# Altium schematic symbol library wr_switch.SCHLIB: 235 symbols (part 4 of 4)
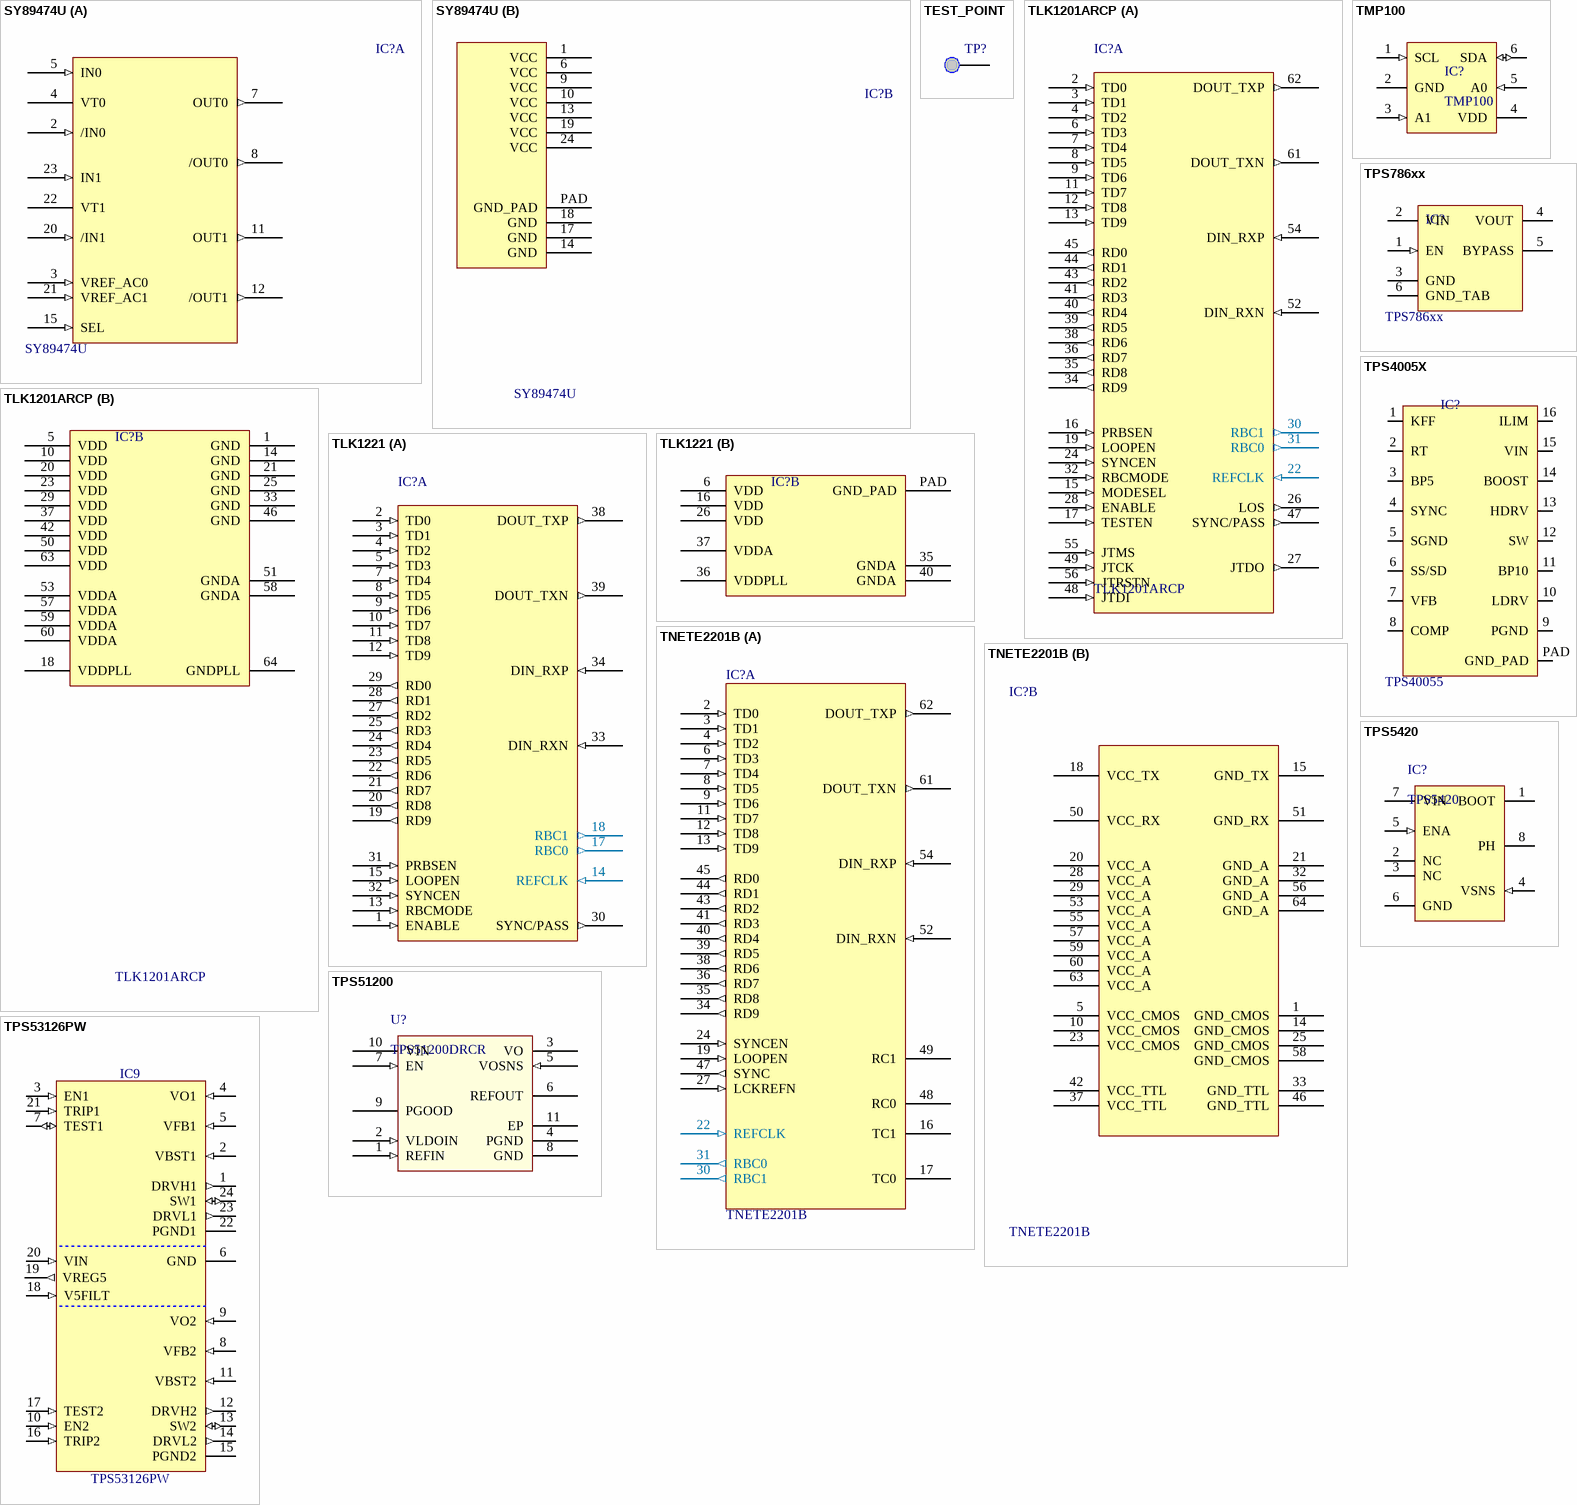
[diagram p29: symbols SY89474U to TPS53126PW]

## TPS786xx
designator IC?
TI low noise LDO, 1A load; Value: TPS786xx
footprint SOT223-6L (SOT223, 6-Leads, Body 6.5x3.5mm, Pitch 2.3mm, Lead Span 7mm, IPC High Density)
pins: 1 EN (in), 2 VIN (oe), 3 GND, 4 VOUT (power), 5 BYPASS, 6 GND_TAB

## TPS4005X
designator IC?  value TPS40055  (hidden comment: TPS4005X)
TI synchronous buck controller; RefId: 1535777; Supplier: Farnell
footprint TI_PWP_16 (SOP, 16-Leads, Body 5x4.4mm, Pitch 0.65mm, IPC High Density)
pins: 1 KFF, 2 RT, 3 BP5, 4 SYNC, 5 SGND, 6 SS/SD, 7 VFB, 8 COMP, 9 PGND, 10 LDRV, 11 BP10, 12 SW, 13 HDRV, 14 BOOST, 15 VIN, 16 ILIM, PAD GND_PAD

## TPS5420
designator IC?
Step-down switchmode converter
footprint SOIC127P600-8AL (SOIC, 8-Leads, Body 4.9x3.9mm, Pitch 1.27mm, IPC High Density)
pins: 1 BOOT, 2 NC, 3 NC, 4 VSNS (in), 5 ENA (in), 6 GND (power), 7 VIN (power), 8 PH (power)

## TPS51200
designator U?, comment TPS51200DRCR
Sink/Source DDR Termination Regulator; Value: TPS51200DRCR; Distributor1 PN: 296-26978-1-ND; Distributor1: Digikey
footprint SON50P300X300X100-11N-R175X250 (SON, 0.50mm Pitch, 10-pin, 3.00mm W  X 3.00mm L X 1.00mm Height, (w/thermal tab 1.75 X 2.50 mm), IPC Medium Density)
pins: 1 REFIN (in), 2 VLDOIN (in), 3 VO (power), 4 PGND (power), 5 VOSNS (in), 6 REFOUT (power), 7 EN (in), 8 GND (power), 9 PGOOD (oc), 10 VIN (power), 11 EP (power)

## TPS53126PW
designator IC9
Dual Synchronous Step-Down Controller For Low Voltage Power Rails; Manufacturer: TEXAS INSTRUMENTS; Table: Analog & Interface; Part Number: TPS53126PW; Component Kind: Standard; Component Type: Standard; Device: TPS53126PW; Footprint: SOP65P640X120-24N; PackageDescription: SOP, 0.65mm Pitch; 24 Pin, 4.40mm W X 7.80mm L X 1.20mm H Body, IPC Medium Density; Part Description: Dual Synchronous Step-Down Controller For Low Voltage Power Rails; Manufacturer Part Number: TPS53126PW; Pin Count: 24; Case: QFN24; Mounted: Yes; Socket: No; SMD: Yes; ComponentHeight: 1.0mm; Author: CERN DEM JLC; HelpURL: \\cern.ch\dfs\Applications\Altium\Datasheets\TPS53126RGET.pdf; CreateDate: 2010-08-26; LatestRevisionDate: 2010-08-26; Distributor1: Digikey; Distributor1 PN: 296-24555-1-ND
footprint SOP65P640X120-24N (SOP, 0.65mm Pitch; 24 Pin, 4.40mm W X 7.80mm L X 1.20mm H Body, IPC Medium Density)
pins: 1 DRVH1 (out), 2 VBST1 (in), 3 EN1 (in), 4 VO1 (in), 5 VFB1 (in), 6 GND (power), 7 TEST1 (io), 8 VFB2 (in), 9 VO2 (in), 10 EN2 (in), 11 VBST2 (in), 12 DRVH2 (out), 13 SW2 (io), 14 DRVL2 (out), 15 PGND2 (power), 16 TRIP2 (in), 17 TEST2 (in), 18 V5FILT (in), 19 VREG5 (out), 20 VIN (in), 21 TRIP1 (in), 22 PGND1 (power), 23 DRVL1 (out), 24 SW1 (io)

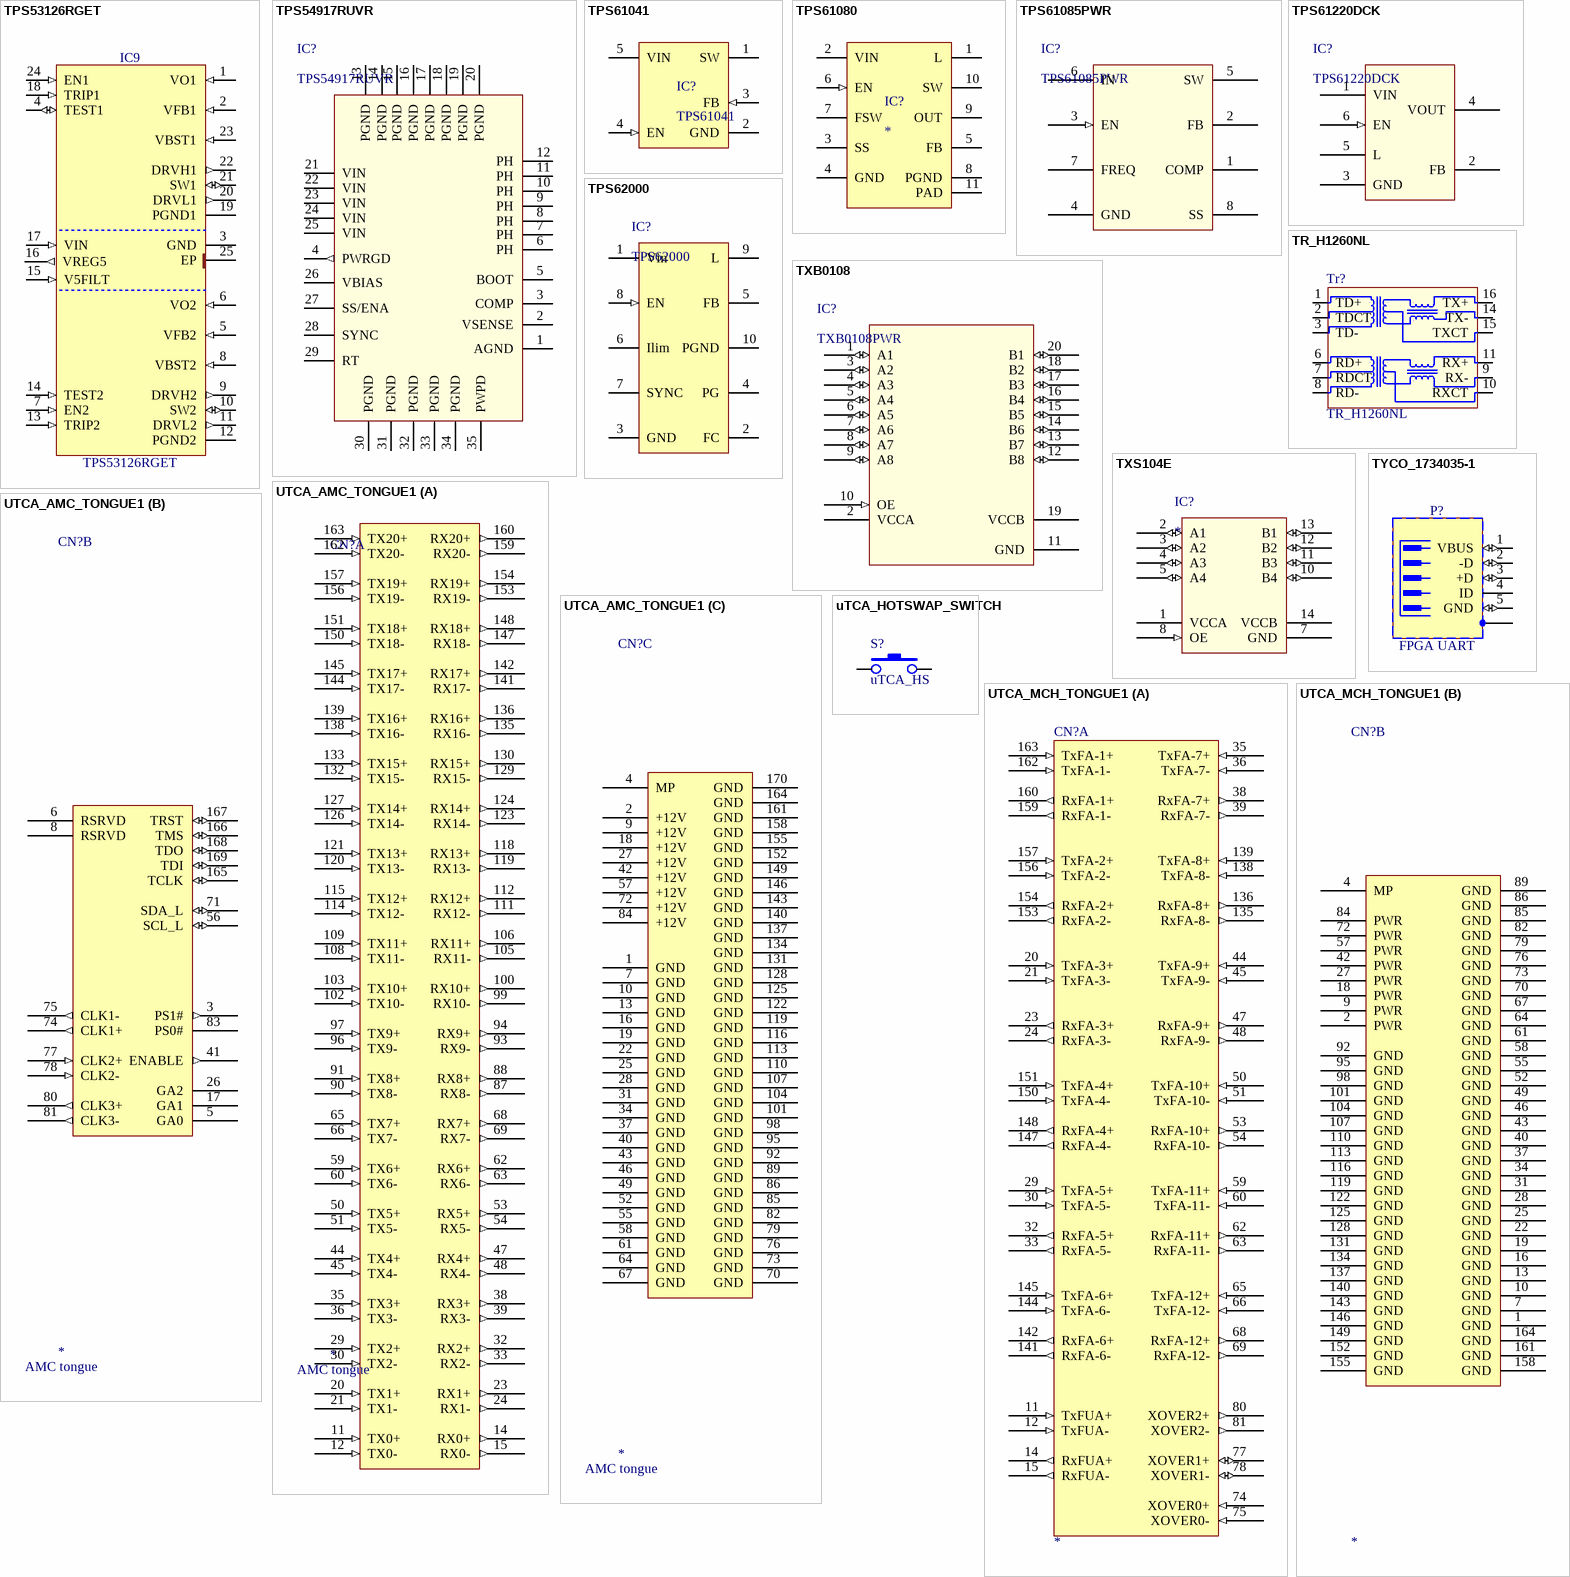
[diagram p23: symbols TPS53126RGET to UTCA_MCH_TONGUE1]

## TPS53126RGET
designator IC9
Dual Synchronous Step-Down Controller For Low Voltage Power Rails; Manufacturer: TEXAS INSTRUMENTS; Table: Analog & Interface; Part Number: TPS53126RGET; Component Kind: Standard; Component Type: Standard; Device: TPS53126RGET; Footprint: QFN50P400X400X100-25N-S255; PackageDescription: QFN,0.50mm pitch,square;6 pin X 6 pin,4.15mm X 4.15mm X 1.00mm H body (w/thermal tab 2.55 X 2.55mm),  IPC Medium Density; Part Description: Dual Synchronous Step-Down Controller For Low Voltage Power Rails; Manufacturer Part Number: TPS53126RGET; Pin Count: 25; Case: QFN24; Mounted: Yes; Socket: No; SMD: Yes; ComponentHeight: 1.0mm; Author: CERN DEM JLC; HelpURL: \\cern.ch\dfs\Applications\Altium\Datasheets\TPS53126RGET.pdf; CreateDate: 2010-08-26; LatestRevisionDate: 2010-08-26
footprint QFN50P400X400X100-25N-S255
pins: 1 VO1 (in), 2 VFB1 (in), 3 GND (power), 4 TEST1 (io), 5 VFB2 (in), 6 VO2 (in), 7 EN2 (in), 8 VBST2 (in), 9 DRVH2 (out), 10 SW2 (io), 11 DRVL2 (out), 12 PGND2 (power), 13 TRIP2 (in), 14 TEST2 (in), 15 V5FILT (in), 16 VREG5 (out), 17 VIN (in), 18 TRIP1 (in), 19 PGND1 (power), 20 DRVL1 (out), 21 SW1 (io), 22 DRVH1 (out), 23 VBST1 (in), 24 EN1 (in), 25 EP (power)

## TPS54917RUVR
designator IC?
3V to 4V Input, 9A, Small Synchronous-Back Switcher with Integrated FETs; Value: TPS54917RUVR; Distributor1 PN: 296-23930-1-ND; Distributor1: Digikey
footprint QFN50P715X365X100-34N (QFN, 34-Leads, Body 3,7x7,2mm (max), Pitch 0,50mm, IPC Medium Density)
pins: 1 AGND (power), 2 VSENSE, 3 COMP, 4 PWRGD (out), 5 BOOT, 6 PH (power), 7 PH (power), 8 PH (power), 9 PH (power), 10 PH (power), 11 PH (power), 12 PH (power), 13 PGND (power), 14 PGND (power), 15 PGND (power), 16 PGND (power), 17 PGND (power), 18 PGND (power), 19 PGND (power), 20 PGND (power), 21 VIN (power), 22 VIN (power), 23 VIN (power), 24 VIN (power), 25 VIN (power), 26 VBIAS, 27 SS/ENA, 28 SYNC, 29 RT, 30 PGND (power), 31 PGND (power), 32 PGND (power), 33 PGND (power), 34 PGND (power), 35 PWPD (power)

## TPS61041
designator IC?
RefId: 1564963; Value: TPS61041DBVR; Supplier: Farnell
footprint sot23-5
pins: 1 SW, 2 GND (power), 3 FB (in), 4 EN (in), 5 VIN

## TPS61080
designator IC?
TI boost converter; Value: TPS61080DRC
footprint SON50P300X300X80-10W2L (SON, 10-Leads, Body 3x3 mm, Pitch 0.5mm, IPC High Density)
pins: 1 L, 2 VIN (power), 3 SS, 4 GND (power), 5 FB, 6 EN (in), 7 FSW, 8 PGND, 9 OUT, 10 SW, 11 PAD

## TPS61085PWR
designator IC?
650KHz/1.2MHz, 18.5V Step-Up DC-DC Converter; Value: TPS61085PWR; Distributor1 PN: 296-23551-1-ND; Distributor1: Digikey
footprint PW008 (Shrink Small Outline; 8 Leads; Body Width 4.4 mm; Pitch 0.65 mm)
pins: 1 COMP, 2 FB, 3 EN (in), 4 GND (power), 5 SW, 6 IN (power), 7 FREQ, 8 SS

## TPS61220DCK
designator IC?
Low Input Voltage Step-Up Converter in 6 Pin SC-70 Package
footprint SC-88
pins: 1 VIN (power), 2 FB, 3 GND (power), 4 VOUT (power), 5 L, 6 EN (in)

## TPS62000
designator IC?
TI sync converter
footprint TSSOP50P490-10AL (TSSOP, 10-Leads, Body 3x3mm, Pitch 0.5mm, IPC High Density)
pins: 1 Vin (power), 2 FC, 3 GND (power), 4 PG (oc), 5 FB, 6 Ilim, 7 SYNC, 8 EN (in), 9 L, 10 PGND (power)

## TR_H1260NL
designator Tr?
ethernet trafo (TME); Value: H1260NL; Distributor1 PN: 553-1328-ND; Distributor1: Digikey
footprint H1260NL
pins: 1 TD+, 2 TDCT, 3 TD-, 6 RD+, 7 RDCT, 8 RD-, 9 RX-, 10 RXCT, 11 RX+, 14 TX-, 15 TXCT, 16 TX+

## TXB0108
designator IC?, comment TXB0108PWR
8-Bit Bidirectional Voltage-Level Translator with Auto-Direction Sensing; Value: TXB0108PWR; Distributor1: Digikey; Distributor1 PN: 296-21527-1-ND
footprint TSSOP20
pins: 1 A1 (io), 2 VCCA (power), 3 A2 (io), 4 A3 (io), 5 A4 (io), 6 A5 (io), 7 A6 (io), 8 A7 (io), 9 A8 (io), 10 OE (in), 11 GND (power), 12 B8 (io), 13 B7 (io), 14 B6 (io), 15 B5 (io), 16 B4 (io), 17 B3 (io), 18 B2 (io), 19 VCCB (power), 20 B1 (io)

## TXS104E
designator IC?
4-Bit Bidirectional Voltage-Level Translator for Open-Drain and Push-Pull Applications
footprint TSSOP-14
pins: 1 VCCA (power), 2 A1 (io), 3 A2 (io), 4 A3 (io), 5 A4 (io), 7 GND (power), 8 OE (in), 10 B4 (io), 11 B3 (io), 12 B2 (io), 13 B1 (io), 14 VCCB (power)

## TYCO_1734035-1
designator P?, comment FPGA UART
5 Pin + 1 Shield Mini USB Type B Receptacle; Part Number: TYCO_1734035-1; Part Description: 5 Position, Right Angle, SMD Mini USB Type B Receptacle; Manufacturer: TYCO ELECTRONICS; Manufacturer Part Number: 1734035-1; Table: TYCO; Component Kind: Standard; Component Type: Standard; Footprint: TYCO_1734035-1; Pin Count: 6; Family: USB; Mounted: Yes; Socket: No; SMD: Yes; Status: None; ComponentHeight: 3.95mm; HelpURL: \\cern.ch\dfs\Applications\Altium\Datasheets\TYCO_1734035-1.pdf; Author: CERN DEM JLC; CreateDate: 02/05/2011; LatestRevisionDate: 02/05/2011
footprint TYCO_1734035-1
pins: 1 VBUS (io), 2 -D (io), 3 +D (io), 4 ID, 5 GND (io), 6 SH (power)

## UTCA_AMC_TONGUE1
designator CN?  value AMC tongue
AMC1.0 connector
footprint UTCA_AMC_TONGUE (uTCA AMC1.0 AMC tongue connector)
part A pins: 11 TX0+ (in), 12 TX0- (in), 14 RX0+ (out), 15 RX0- (out), 20 TX1+ (in), 21 TX1- (in), 23 RX1+ (out), 24 RX1- (out), 29 TX2+ (in), 30 TX2- (in), 32 RX2+ (out), 33 RX2- (out), 35 TX3+ (in), 36 TX3- (in), 38 RX3+ (out), 39 RX3- (out), 44 TX4+ (in), 45 TX4- (in), 47 RX4+ (out), 48 RX4- (out), 50 TX5+ (in), 51 TX5- (in), 53 RX5+ (out), 54 RX5- (out), 59 TX6+ (in), 60 TX6- (in), 62 RX6+ (out), 63 RX6- (out), 65 TX7+ (in), 66 TX7- (in), 68 RX7+ (out), 69 RX7- (out), 87 RX8- (out), 88 RX8+ (out), 90 TX8- (in), 91 TX8+ (in), 93 RX9- (out), 94 RX9+ (out), 96 TX9- (in), 97 TX9+ (in), 99 RX10- (out), 100 RX10+ (out), 102 TX10- (in), 103 TX10+ (in), 105 RX11- (out), 106 RX11+ (out), 108 TX11- (in), 109 TX11+ (in), 111 RX12- (out), 112 RX12+ (out), 114 TX12- (in), 115 TX12+ (in), 118 RX13+ (out), 119 RX13- (out), 120 TX13- (in), 121 TX13+ (in), 123 RX14- (out), 124 RX14+ (out), 126 TX14- (in), 127 TX14+ (in), 129 RX15- (out), 130 RX15+ (out), 132 TX15- (in), 133 TX15+ (in), 135 RX16- (out), 136 RX16+ (out), 138 TX16- (in), 139 TX16+ (in), 141 RX17- (out), 142 RX17+ (out), 144 TX17- (in), 145 TX17+ (in), 147 RX18- (out), 148 RX18+ (out), 150 TX18- (in), 151 TX18+ (in), 153 RX19- (out), 154 RX19+ (out), 156 TX19- (in), 157 TX19+ (in), 159 RX20- (out), 160 RX20+ (out), 162 TX20- (in), 163 TX20+ (in)
part B pins: 3 PS1# (out), 5 GA0, 6 RSRVD, 8 RSRVD, 17 GA1, 26 GA2, 41 ENABLE (out), 56 SCL_L (io), 71 SDA_L (io), 74 CLK1+ (out), 75 CLK1- (out), 77 CLK2+ (in), 78 CLK2- (in), 80 CLK3+ (out), 81 CLK3- (out), 83 PS0#, 165 TCLK (io), 166 TMS (io), 167 TRST (io), 168 TDO (io), 169 TDI (io)
part C pins: 1 GND (power), 2 +12V (power), 4 MP (power), 7 GND (power), 9 +12V (power), 10 GND (power), 13 GND (power), 16 GND (power), 18 +12V (power), 19 GND (power), 22 GND (power), 25 GND (power), 27 +12V (power), 28 GND (power), 31 GND (power), 34 GND (power), 37 GND (power), 40 GND (power), 42 +12V (power), 43 GND (power), 46 GND (power), 49 GND (power), 52 GND (power), 55 GND (power), 57 +12V (power), 58 GND (power), 61 GND (power), 64 GND (power), 67 GND (power), 70 GND (power), 72 +12V (power), 73 GND (power), 76 GND (power), 79 GND (power), 82 GND (power), 84 +12V (power), 85 GND (power), 86 GND (power), 89 GND (power), 92 GND (power), 95 GND (power), 98 GND (power), 101 GND (power), 104 GND (power), 107 GND (power), 110 GND (power), 113 GND (power), 116 GND (power), 119 GND (power), 122 GND (power), 125 GND (power), 128 GND (power), 131 GND (power), 134 GND (power), 137 GND (power), 140 GND (power), 143 GND (power), 146 GND (power), 149 GND (power), 152 GND (power), 155 GND (power), 158 GND (power), 161 GND (power), 164 GND (power), 170 GND (power)

## uTCA_HOTSWAP_SWITCH
designator S?, comment uTCA_HS
Push button; RefId: 20849-209; Value: uTCA hotswap switch; Supplier: Schroff
footprint uTCA_HOTSWAP_SWITCH
pins: A, B, C, D
2 alternate drawings of the same symbol

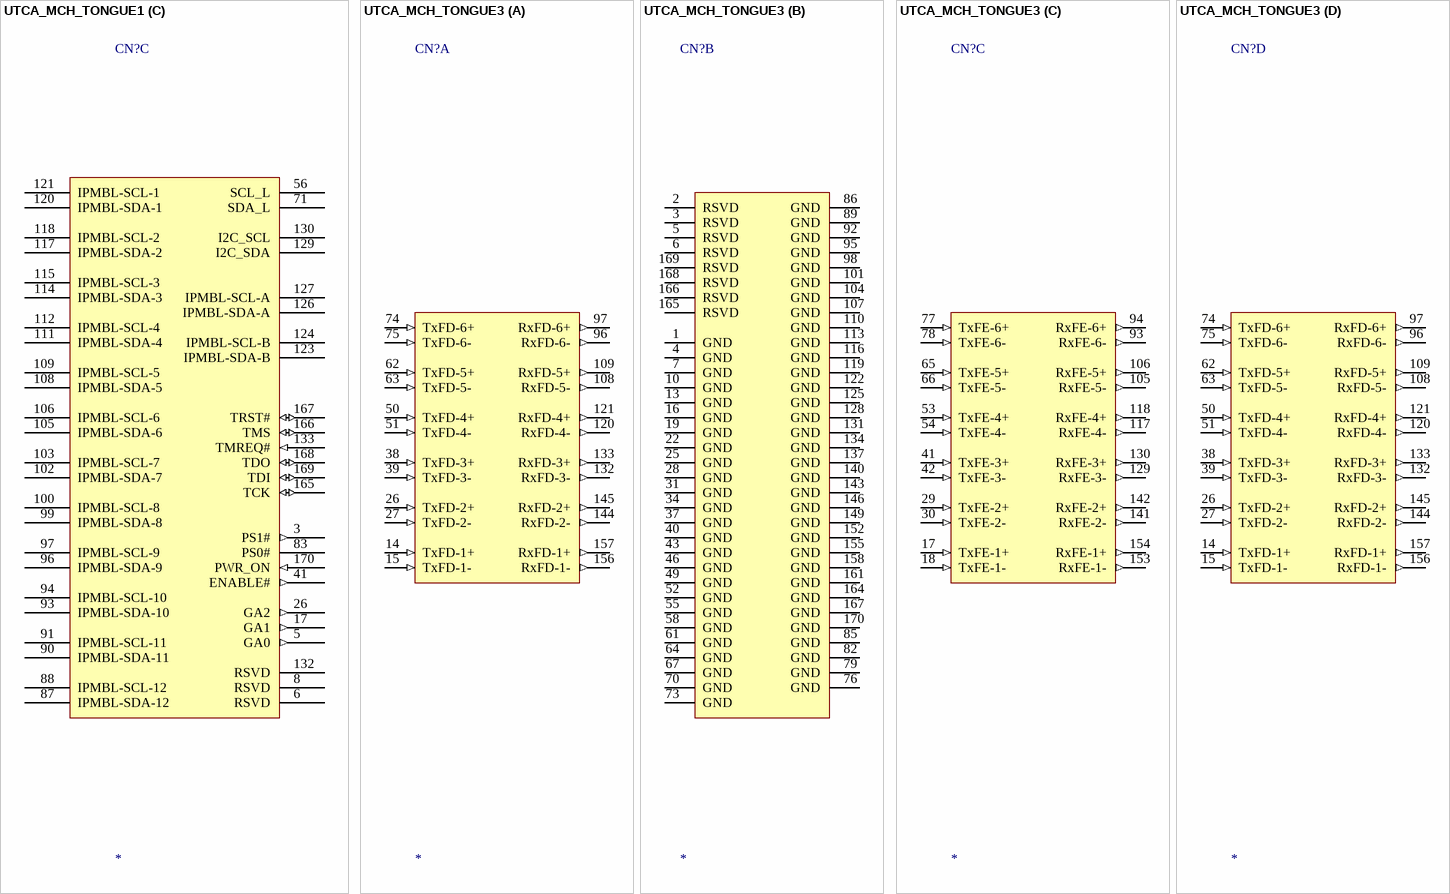
[diagram p24: symbols UTCA_MCH_TONGUE1 to UTCA_MCH_TONGUE3]

## UTCA_MCH_TONGUE1
designator CN?
microTCA MTCA.0 standard MCH connector 1; Value: MCH tongue 1
part A pins: 11 TxFUA+ (in), 12 TxFUA- (in), 14 RxFUA+ (out), 15 RxFUA- (out), 20 TxFA-3+ (in), 21 TxFA-3- (in), 23 RxFA-3+ (out), 24 RxFA-3- (out), 29 TxFA-5+ (in), 30 TxFA-5- (in), 32 RxFA-5+ (out), 33 RxFA-5- (out), 35 TxFA-7+ (in), 36 TxFA-7- (in), 38 RxFA-7+ (out), 39 RxFA-7- (out), 44 TxFA-9+ (in), 45 TxFA-9- (in), 47 RxFA-9+ (out), 48 RxFA-9- (out), 50 TxFA-10+ (in), 51 TxFA-10- (in), 53 RxFA-10+ (out), 54 RxFA-10- (out), 59 TxFA-11+ (in), 60 TxFA-11- (in), 62 RxFA-11+ (out), 63 RxFA-11- (out), 65 TxFA-12+ (in), 66 TxFA-12- (in), 68 RxFA-12+ (out), 69 RxFA-12- (out), 74 XOVER0+ (in), 75 XOVER0- (in), 77 XOVER1+ (io), 78 XOVER1- (io), 80 XOVER2+ (out), 81 XOVER2- (out), 135 RxFA-8- (out), 136 RxFA-8+ (out), 138 TxFA-8- (in), 139 TxFA-8+ (in), 141 RxFA-6- (out), 142 RxFA-6+ (out), 144 TxFA-6- (in), 145 TxFA-6+ (in), 147 RxFA-4- (out), 148 RxFA-4+ (out), 150 TxFA-4- (in), 151 TxFA-4+ (in), 153 RxFA-2- (out), 154 RxFA-2+ (out), 156 TxFA-2- (in), 157 TxFA-2+ (in), 159 RxFA-1- (out), 160 RxFA-1+ (out), 162 TxFA-1- (in), 163 TxFA-1+ (in)
part B pins: 1 GND (power), 2 PWR (power), 4 MP (power), 7 GND (power), 9 PWR (power), 10 GND (power), 13 GND (power), 16 GND (power), 18 PWR (power), 19 GND (power), 22 GND (power), 25 GND (power), 27 PWR (power), 28 GND (power), 31 GND (power), 34 GND (power), 37 GND (power), 40 GND (power), 42 PWR (power), 43 GND (power), 46 GND (power), 49 GND (power), 52 GND (power), 55 GND (power), 57 PWR (power), 58 GND (power), 61 GND (power), 64 GND (power), 67 GND (power), 70 GND (power), 72 PWR (power), 73 GND (power), 76 GND (power), 79 GND (power), 82 GND (power), 84 PWR (power), 85 GND (power), 86 GND (power), 89 GND (power), 92 GND (power), 95 GND (power), 98 GND (power), 101 GND (power), 104 GND (power), 107 GND (power), 110 GND (power), 113 GND (power), 116 GND (power), 119 GND (power), 122 GND (power), 125 GND (power), 128 GND (power), 131 GND (power), 134 GND (power), 137 GND (power), 140 GND (power), 143 GND (power), 146 GND (power), 149 GND (power), 152 GND (power), 155 GND (power), 158 GND (power), 161 GND (power), 164 GND (power)
part C pins: 3 PS1# (out), 5 GA0 (out), 6 RSVD (hiz), 8 RSVD (hiz), 17 GA1 (out), 26 GA2 (out), 41 ENABLE# (out), 56 SCL_L (oc), 71 SDA_L (oc), 83 PS0#, 87 IPMBL-SDA-12 (oc), 88 IPMBL-SCL-12 (oc), 90 IPMBL-SDA-11 (oc), 91 IPMBL-SCL-11 (oc), 93 IPMBL-SDA-10 (oc), 94 IPMBL-SCL-10 (oc), 96 IPMBL-SDA-9 (oc), 97 IPMBL-SCL-9 (oc), 99 IPMBL-SDA-8 (oc), 100 IPMBL-SCL-8 (oc), 102 IPMBL-SDA-7 (oc), 103 IPMBL-SCL-7 (oc), 105 IPMBL-SDA-6 (oc), 106 IPMBL-SCL-6 (oc), 108 IPMBL-SDA-5 (oc), 109 IPMBL-SCL-5 (oc), 111 IPMBL-SDA-4 (oc), 112 IPMBL-SCL-4 (oc), 114 IPMBL-SDA-3 (oc), 115 IPMBL-SCL-3 (oc), 117 IPMBL-SDA-2 (oc), 118 IPMBL-SCL-2 (oc), 120 IPMBL-SDA-1 (oc), 121 IPMBL-SCL-1 (oc), 123 IPMBL-SDA-B (oc), 124 IPMBL-SCL-B (oc), 126 IPMBL-SDA-A (oc), 127 IPMBL-SCL-A (oc), 129 I2C_SDA (oc), 130 I2C_SCL (oc), 132 RSVD (hiz), 133 TMREQ# (in), 165 TCK (io), 166 TMS (io), 167 TRST# (io), 168 TDO (io), 169 TDI (io), 170 PWR_ON (in)

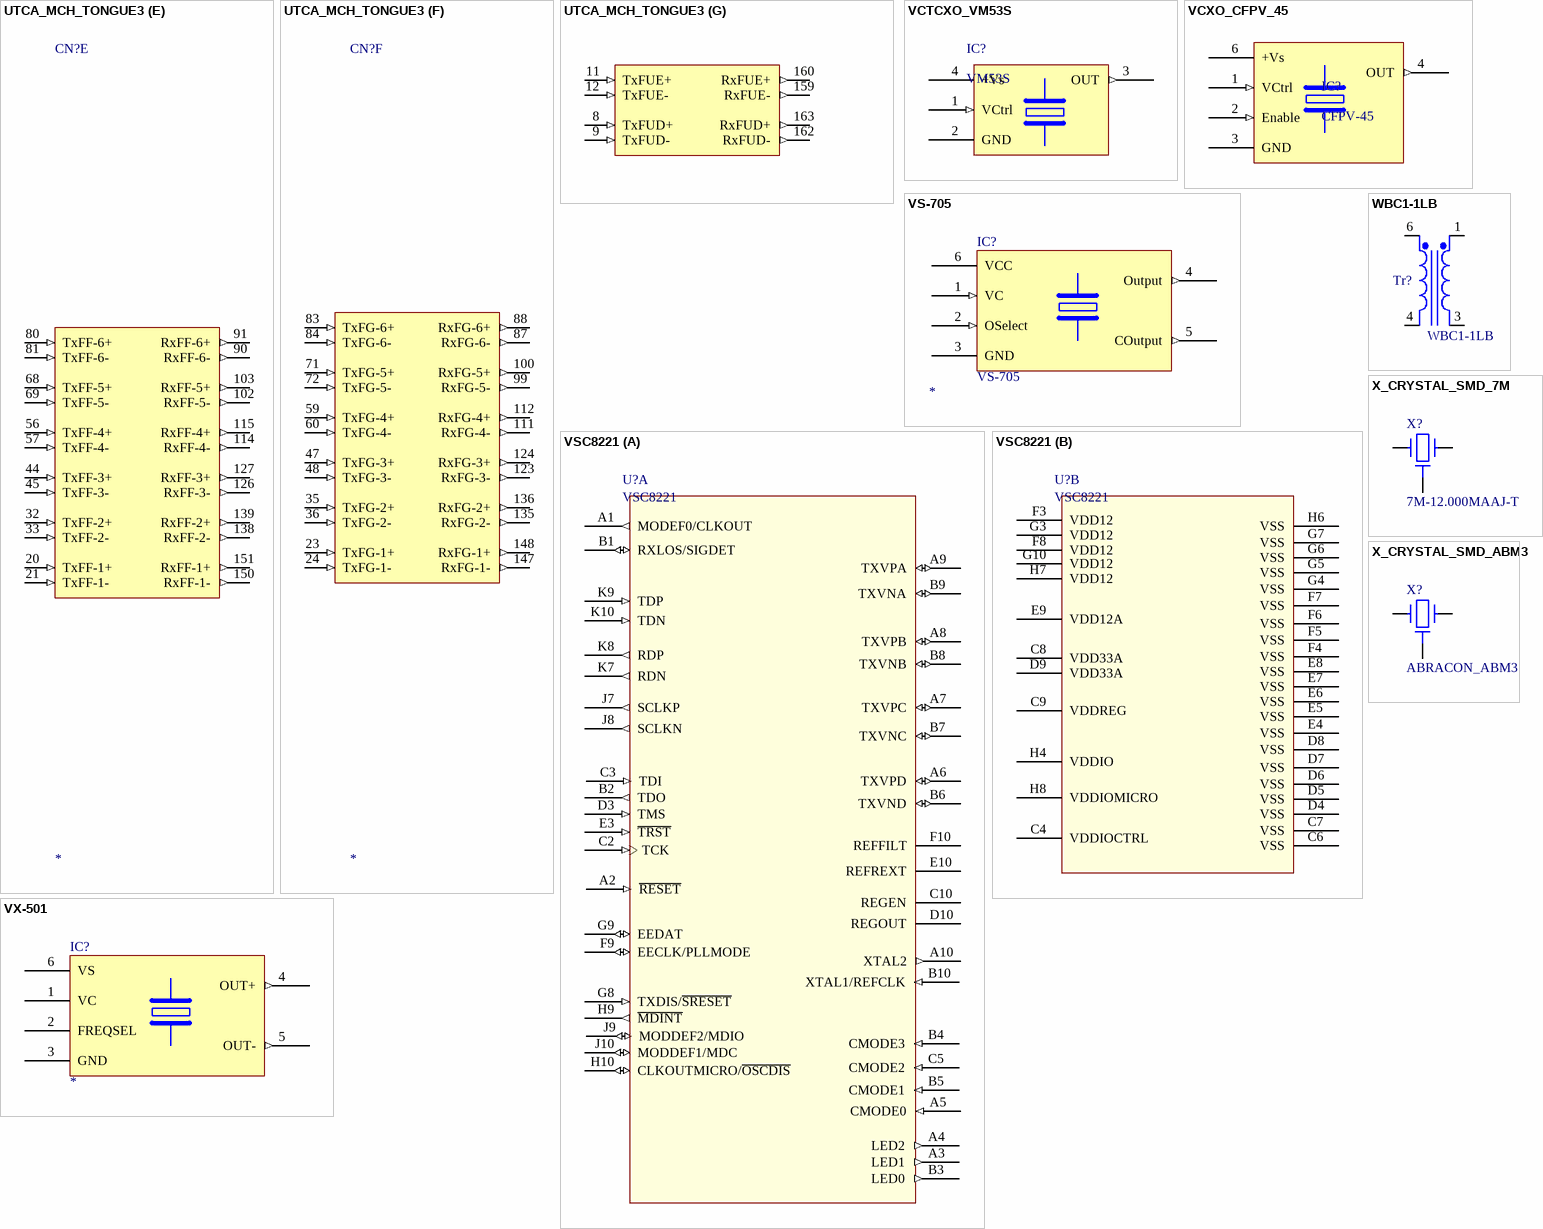
[diagram p25: symbols UTCA_MCH_TONGUE3 to X_CRYSTAL_SMD_ABM3]

## UTCA_MCH_TONGUE3
designator CN?
microTCA MTCA.0 standard MCH connector 3; Value: MCH tongue 3
footprint UTCA_MCH_TONGUE2_3_4 (uTCA MTCA.0 MCH tongue connector)
part A pins: 14 TxFD-1+ (in), 15 TxFD-1- (in), 26 TxFD-2+ (in), 27 TxFD-2- (in), 38 TxFD-3+ (in), 39 TxFD-3- (in), 50 TxFD-4+ (in), 51 TxFD-4- (in), 62 TxFD-5+ (in), 63 TxFD-5- (in), 74 TxFD-6+ (in), 75 TxFD-6- (in), 96 RxFD-6- (out), 97 RxFD-6+ (out), 108 RxFD-5- (out), 109 RxFD-5+ (out), 120 RxFD-4- (out), 121 RxFD-4+ (out), 132 RxFD-3- (out), 133 RxFD-3+ (out), 144 RxFD-2- (out), 145 RxFD-2+ (out), 156 RxFD-1- (out), 157 RxFD-1+ (out)
part B pins: 1 GND (power), 2 RSVD, 3 RSVD, 4 GND (power), 5 RSVD, 6 RSVD, 7 GND (power), 10 GND (power), 13 GND (power), 16 GND (power), 19 GND (power), 22 GND (power), 25 GND (power), 28 GND (power), 31 GND (power), 34 GND (power), 37 GND (power), 40 GND (power), 43 GND (power), 46 GND (power), 49 GND (power), 52 GND (power), 55 GND (power), 58 GND (power), 61 GND (power), 64 GND (power), 67 GND (power), 70 GND (power), 73 GND (power), 76 GND (power), 79 GND (power), 82 GND (power), 85 GND (power), 86 GND (power), 89 GND (power), 92 GND (power), 95 GND (power), 98 GND (power), 101 GND (power), 104 GND (power), 107 GND (power), 110 GND (power), 113 GND (power), 116 GND (power), 119 GND (power), 122 GND (power), 125 GND (power), 128 GND (power), 131 GND (power), 134 GND (power), 137 GND (power), 140 GND (power), 143 GND (power), 146 GND (power), 149 GND (power), 152 GND (power), 155 GND (power), 158 GND (power), 161 GND (power), 164 GND (power), 165 RSVD, 166 RSVD, 167 GND (power), 168 RSVD, 169 RSVD, 170 GND (power)
part C pins: 17 TxFE-1+ (in), 18 TxFE-1- (in), 29 TxFE-2+ (in), 30 TxFE-2- (in), 41 TxFE-3+ (in), 42 TxFE-3- (in), 53 TxFE-4+ (in), 54 TxFE-4- (in), 65 TxFE-5+ (in), 66 TxFE-5- (in), 77 TxFE-6+ (in), 78 TxFE-6- (in), 93 RxFE-6- (out), 94 RxFE-6+ (out), 105 RxFE-5- (out), 106 RxFE-5+ (out), 117 RxFE-4- (out), 118 RxFE-4+ (out), 129 RxFE-3- (out), 130 RxFE-3+ (out), 141 RxFE-2- (out), 142 RxFE-2+ (out), 153 RxFE-1- (out), 154 RxFE-1+ (out)
part D pins: 14 TxFD-1+ (in), 15 TxFD-1- (in), 26 TxFD-2+ (in), 27 TxFD-2- (in), 38 TxFD-3+ (in), 39 TxFD-3- (in), 50 TxFD-4+ (in), 51 TxFD-4- (in), 62 TxFD-5+ (in), 63 TxFD-5- (in), 74 TxFD-6+ (in), 75 TxFD-6- (in), 96 RxFD-6- (out), 97 RxFD-6+ (out), 108 RxFD-5- (out), 109 RxFD-5+ (out), 120 RxFD-4- (out), 121 RxFD-4+ (out), 132 RxFD-3- (out), 133 RxFD-3+ (out), 144 RxFD-2- (out), 145 RxFD-2+ (out), 156 RxFD-1- (out), 157 RxFD-1+ (out)
part E pins: 20 TxFF-1+ (in), 21 TxFF-1- (in), 32 TxFF-2+ (in), 33 TxFF-2- (in), 44 TxFF-3+ (in), 45 TxFF-3- (in), 56 TxFF-4+ (in), 57 TxFF-4- (in), 68 TxFF-5+ (in), 69 TxFF-5- (in), 80 TxFF-6+ (in), 81 TxFF-6- (in), 90 RxFF-6- (out), 91 RxFF-6+ (out), 102 RxFF-5- (out), 103 RxFF-5+ (out), 114 RxFF-4- (out), 115 RxFF-4+ (out), 126 RxFF-3- (out), 127 RxFF-3+ (out), 138 RxFF-2- (out), 139 RxFF-2+ (out), 150 RxFF-1- (out), 151 RxFF-1+ (out)
part F pins: 23 TxFG-1+ (in), 24 TxFG-1- (in), 35 TxFG-2+ (in), 36 TxFG-2- (in), 47 TxFG-3+ (in), 48 TxFG-3- (in), 59 TxFG-4+ (in), 60 TxFG-4- (in), 71 TxFG-5+ (in), 72 TxFG-5- (in), 83 TxFG-6+ (in), 84 TxFG-6- (in), 87 RxFG-6- (out), 88 RxFG-6+ (out), 99 RxFG-5- (out), 100 RxFG-5+ (out), 111 RxFG-4- (out), 112 RxFG-4+ (out), 123 RxFG-3- (out), 124 RxFG-3+ (out), 135 RxFG-2- (out), 136 RxFG-2+ (out), 147 RxFG-1- (out), 148 RxFG-1+ (out)
part G pins: 8 TxFUD+ (in), 9 TxFUD- (in), 11 TxFUE+ (in), 12 TxFUE- (in), 159 RxFUE- (out), 160 RxFUE+ (out), 162 RxFUD- (out), 163 RxFUD+ (out)

## VCTCXO_VM53S
designator IC?, comment VM53S
VCTCXO oscillator
footprint VCTCXO_VM53S
pins: 1 VCtrl (in), 2 GND (power), 3 OUT (out), 4 +Vs (power)

## VCXO_CFPV_45
designator IC?, comment CFPV-45
VCXO oscillator
footprint vs-705
pins: 1 VCtrl (in), 2 Enable (in), 3 GND (power), 4 OUT (out), 6 +Vs (power)

## VS-705
designator IC?
Vectron Voltage Controlled SAW Oscillator; Value: *
footprint VS-705
pins: 1 VC (in), 2 OSelect (in), 3 GND (power), 4 Output (out), 5 COutput (out), 6 VCC (power)

## VSC8221
designator U?
Single-Port 10/100/1000Base-T PHY with 1.25 Gbps SerDes for SFPs/GBICs; Manufacturer1: Vitesse; Manufacturer1 PN: VSC8221XHH; Distributor1: Digikey; Distributor1 PN: 907-1024-ND
footprint BGA100C80P10X10_900X900X110 (BGA, 0.80mm pitch, square; 100 pin, 10 columns X 10 rows, 9.00mm X 9.00mm X 1.10mm H)
part A pins: A1 MODEF0/CLKOUT (out), A2 ~{RESET} (in), A3 LED1 (out), A4 LED2 (out), A5 CMODE0 (in), A6 TXVPD (io), A7 TXVPC (io), A8 TXVPB (io), A9 TXVPA (io), A10 XTAL2 (out), B1 RXLOS/SIGDET (io), B2 TDO (out), B3 LED0 (out), B4 CMODE3 (in), B5 CMODE1 (in), B6 TXVND (io), B7 TXVNC (io), B8 TXVNB (io), B9 TXVNA (io), B10 XTAL1/REFCLK (in), C2 TCK (in), C3 TDI (in), C5 CMODE2 (in), C10 REGEN, D3 TMS (in), D10 REGOUT, E3 ~{TRST} (in), E10 REFREXT, F9 EECLK/PLLMODE (io), F10 REFFILT, G8 TXDIS/~{SRESET} (in), G9 EEDAT (io), H9 ~{MDINT} (out), H10 CLKOUTMICRO/~{OSCDIS} (io), J7 SCLKP (out), J8 SCLKN (out), J9 MODDEF2/MDIO (io), J10 MODDEF1/MDC (io), K7 RDN (out), K8 RDP (out), K9 TDP (in), K10 TDN (in)
part B pins: C4 VDDIOCTRL (power), C6 VSS (power), C7 VSS (power), C8 VDD33A (power), C9 VDDREG (power), D4 VSS (power), D5 VSS (power), D6 VSS (power), D7 VSS (power), D8 VSS (power), D9 VDD33A (power), E4 VSS (power), E5 VSS (power), E6 VSS (power), E7 VSS (power), E8 VSS (power), E9 VDD12A (power), F3 VDD12 (power), F4 VSS (power), F5 VSS (power), F6 VSS (power), F7 VSS (power), F8 VDD12 (power), G3 VDD12 (power), G4 VSS (power), G5 VSS (power), G6 VSS (power), G7 VSS (power), G10 VDD12 (power), H4 VDDIO (power), H6 VSS (power), H7 VDD12 (power), H8 VDDIOMICRO (power)

## VX-501
designator IC?
Vectron VCXO
pins: 1 VC, 2 FREQSEL, 3 GND (power), 4 OUT+ (out), 5 OUT- (out), 6 VS (power)

## WBC1-1LB
designator Tr?
SMT Mini WideBand Transformer 1:1, 10uH,; Manufacturer: Coilcraft; Published: 8-Jun-2000; LatestRevisionDate: 17-Jul-2002; LatestRevisionNote: Re-released for DXP Platform.; PackageReference: TRF_4; Publisher: Altium Limited; Value: WBC1-1LB
simulation model IDEALTRANS (Spice Subcircuit)
footprint SMT6P150P (WBC Series Coilcraft Transformer 4.19mmx4.45mm Footprint)
pins: 1 Sec+, 3 Sec-, 4 Pri-, 6 Pri+

## X_CRYSTAL_SMD_7M
designator X?, comment 7M-12.000MAAJ-T
SMD Crystal 7M Series 18pF 30 ppm; Value: 7M-12.000MAAJ-T; Distributor1 PN: 887-1121-1-ND; Distributor1: Digikey
footprint XTALL_ABM8 (Footprint not found)
footprint XTALL_ABM3 (Abracon ABM3 xtal series)
footprint OSC_IQD_CFPS-39 (Oscillator, Side Concave, 2.20mm Pitch; 4 Pin, 2.50mm L X 3.20mm W X 1.30mm H)
pins: 1, 2, 3, 4
2 alternate drawings of the same symbol

## X_CRYSTAL_SMD_ABM3
designator X?, comment ABRACON_ABM3
Miniature crystal oscillator (ABRACON)
footprint XTALL_ABM8 (Footprint not found)
footprint XTALL_ABM3 (Abracon ABM3 xtal series)
footprint ABRACON_ABMM
pins: 1, 2, 3, 4
2 alternate drawings of the same symbol

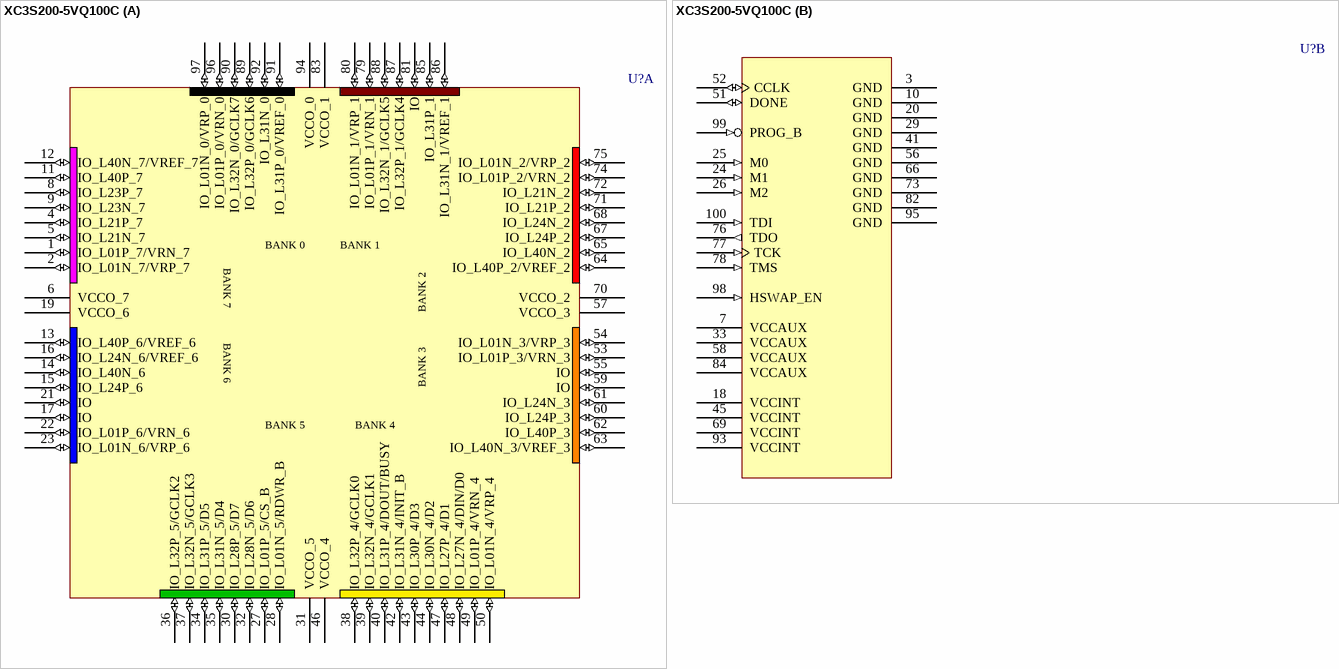
[diagram p26: symbol XC3S200-5VQ100C]

## XC3S200-5VQ100C
designator U?
Spartan-3 1.2V FPGA, 63 User I/Os, 100-pin VQFP, High Performance, Commercial Grade; Package Information: Latest Revision: ver1.1, Oct-2002; Code - JEDEC: MS-026-AED; Code - IPC: SQFP14X14-100; Published: 17-Sep-2003; Datasheet: Latest Revision: Dec-2003; Package Reference: VQ100; Publisher: Altium Limited
footprint VQ100 (100-Pin Very Thin Quad Flat Pack (VQ100))
3D model XC3S200-VQ100 (100-Pin Very Thin Quad Flat Pack (VQ100))
part A pins: 1 IO_L01P_7/VRN_7 (io), 2 IO_L01N_7/VRP_7 (io), 4 IO_L21P_7 (io), 5 IO_L21N_7 (io), 6 VCCO_7 (power), 8 IO_L23P_7 (io), 9 IO_L23N_7 (io), 11 IO_L40P_7 (io), 12 IO_L40N_7/VREF_7 (io), 13 IO_L40P_6/VREF_6 (io), 14 IO_L40N_6 (io), 15 IO_L24P_6 (io), 16 IO_L24N_6/VREF_6 (io), 17 IO (io), 19 VCCO_6 (power), 21 IO (io), 22 IO_L01P_6/VRN_6 (io), 23 IO_L01N_6/VRP_6 (io), 27 IO_L01P_5/CS_B (io), 28 IO_L01N_5/RDWR_B (io), 30 IO_L28P_5/D7 (io), 31 VCCO_5 (power), 32 IO_L28N_5/D6 (io), 34 IO_L31P_5/D5 (io), 35 IO_L31N_5/D4 (io), 36 IO_L32P_5/GCLK2 (io), 37 IO_L32N_5/GCLK3 (io), 38 IO_L32P_4/GCLK0 (io), 39 IO_L32N_4/GCLK1 (io), 40 IO_L31P_4/DOUT/BUSY (io), 42 IO_L31N_4/INIT_B (io), 43 IO_L30P_4/D3 (io), 44 IO_L30N_4/D2 (io), 46 VCCO_4 (power), 47 IO_L27P_4/D1 (io), 48 IO_L27N_4/DIN/D0 (io), 49 IO_L01P_4/VRN_4 (io), 50 IO_L01N_4/VRP_4 (io), 53 IO_L01P_3/VRN_3 (io), 54 IO_L01N_3/VRP_3 (io), 55 IO (io), 57 VCCO_3 (power), 59 IO (io), 60 IO_L24P_3 (io), 61 IO_L24N_3 (io), 62 IO_L40P_3 (io), 63 IO_L40N_3/VREF_3 (io), 64 IO_L40P_2/VREF_2 (io), 65 IO_L40N_2 (io), 67 IO_L24P_2 (io), 68 IO_L24N_2 (io), 70 VCCO_2 (power), 71 IO_L21P_2 (io), 72 IO_L21N_2 (io), 74 IO_L01P_2/VRN_2 (io), 75 IO_L01N_2/VRP_2 (io), 79 IO_L01P_1/VRN_1 (io), 80 IO_L01N_1/VRP_1 (io), 81 IO (io), 83 VCCO_1 (power), 85 IO_L31P_1 (io), 86 IO_L31N_1/VREF_1 (io), 87 IO_L32P_1/GCLK4 (io), 88 IO_L32N_1/GCLK5 (io), 89 IO_L32P_0/GCLK6 (io), 90 IO_L32N_0/GCLK7 (io), 91 IO_L31P_0/VREF_0 (io), 92 IO_L31N_0 (io), 94 VCCO_0 (power), 96 IO_L01P_0/VRN_0 (io), 97 IO_L01N_0/VRP_0 (io)
part B pins: 3 GND (power), 7 VCCAUX (power), 10 GND (power), 18 VCCINT (power), 20 GND (power), 24 M1 (in), 25 M0 (in), 26 M2 (in), 29 GND (power), 33 VCCAUX (power), 41 GND (power), 45 VCCINT (power), 51 DONE (io), 52 CCLK (io), 56 GND (power), 58 VCCAUX (power), 66 GND (power), 69 VCCINT (power), 73 GND (power), 76 TDO (out), 77 TCK (in), 78 TMS (in), 82 GND (power), 84 VCCAUX (power), 93 VCCINT (power), 95 GND (power), 98 HSWAP_EN (in), 99 PROG_B (in), 100 TDI (in)
part A text: BANK 0; BANK 1; BANK 7; BANK 2; BANK 6; BANK 3; BANK 5; BANK 4